# Altium integrated library LEDs.IntLib: 8 symbols
Pins are listed as number, name and electrical type; pins without a type are passive.

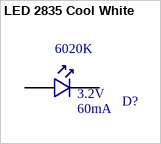
[diagram p0: symbol LED 2835 Cool White]

## LED 2835 Cool White
designator D?  Forward Voltage: 3.2V  Color Temperature: 6020K  Forward Current: 60mA  (hidden comment: LED 2835 Cool White)
LED Lighting - White, Cool 6020K (5300K ~ 7050K) 3.2V 60mA  1113 (2835 Metric); Manufacturer 1: QT Brightek (QTB); Manufacturer 1 PN: QBHP686-IWK-CW; ComponentLink1Description: Datasheet; ComponentLink1URL: http://www.qt-brightek.com/datasheet/QBHP686-IWK-XX.pdf; Digikey PN: 1516-1050-1-ND
footprint LED 2835 Cool White (LED Lighting - White, Cool 6020K (5300K ~ 7050K) 3.2V 60mA  1113 (2835 Metric))
pins: A, K


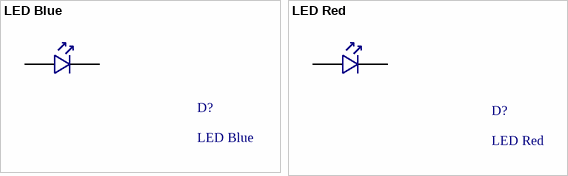
[diagram p1: symbols LED Blue to LED Red]

## LED Blue
designator D?
Blue 470nm LED Indication - Discrete 3.3V 0805 (2012 Metric); Manufacturer 1: Lite-On Inc.; Manufacturer 1 PN: LTST-C171TBKT
footprint LED Blue (Blue 470nm LED Indication - Discrete 3.3V 0805 (2012 Metric))
pins: A, K

## LED Red
designator D?
Red 631nm LED Indication - Discrete 2V 0805 (2012 Metric); Manufacturer 1: Lite-On Inc.; Manufacturer 1 PN: LTST-C171KRKT
footprint LED Red (Red 631nm LED Indication - Discrete 2V 0805 (2012 Metric))
pins: A, K


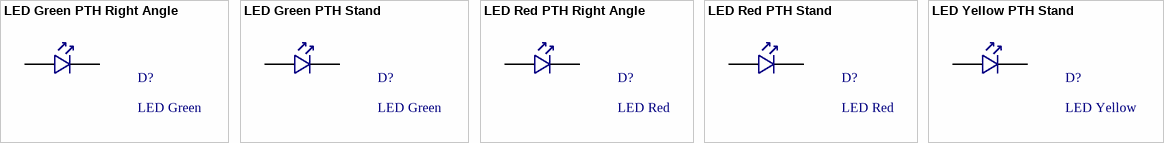
[diagram p2: symbols LED Green PTH Right Angle to LED Yellow PTH Stand]

## LED Green PTH Right Angle
designator D?, comment LED Green
Green 527nm LED Indication - Discrete 3.2V Radial; Manufacturer 1: Wurth Electronics Inc.; Manufacturer 1 PN: 151053GS03000; ComponentLink1Description: Datasheet; ComponentLink1URL: https://www.cree.com/led-components/media/documents/C503B-BAS-BAN-BCS-BCN-GAS-GAN-GCS-GCN-1094.pdf; Digikey PN: 732-5020-ND; Mouser PN: 710-151053GS03000
footprint LED GREEN PTH RIGHT ANGLE (Green 527nm LED Indication - Discrete 3.2V Radial)
pins: A, K

## LED Green PTH Stand
designator D?, comment LED Green
Green 527nm LED Indication - Discrete 3.2V Radial; Manufacturer 1: Wurth Electronics Inc.; Manufacturer 1 PN: 151053GS03000; ComponentLink1Description: Datasheet; ComponentLink1URL: https://www.cree.com/led-components/media/documents/C503B-BAS-BAN-BCS-BCN-GAS-GAN-GCS-GCN-1094.pdf; Digikey PN: 732-5020-ND; Mouser PN: 710-151053GS03000
footprint LED GREEN PTH STAND (Green 527nm LED Indication - Discrete 3.2V Radial)
pins: A, K

## LED Red PTH Right Angle
designator D?, comment LED Red
Red 623nm LED Indication - Discrete 1.9V Radial; Manufacturer 1: Wurth Electronics Inc.; Manufacturer 1 PN: 151053RS03000; ComponentLink1Description: Datasheet; ComponentLink1URL: https://www.cree.com/led-components/media/documents/C503B-BAS-BAN-BCS-BCN-GAS-GAN-GCS-GCN-1094.pdf; Digikey PN: 732-5021-ND; Mouser PN: 710-151053RS03000
footprint LED RED PTH RIGHT ANGLE (Red 623nm LED Indication - Discrete 1.9V Radial)
pins: A, K

## LED Red PTH Stand
designator D?, comment LED Red
Red 623nm LED Indication - Discrete 1.9V Radial; Manufacturer 1: Wurth Electronics Inc.; Manufacturer 1 PN: 151053RS03000; ComponentLink1Description: Datasheet; ComponentLink1URL: https://www.cree.com/led-components/media/documents/C503B-BAS-BAN-BCS-BCN-GAS-GAN-GCS-GCN-1094.pdf; Digikey PN: 732-5021-ND; Mouser PN: 710-151053RS03000
footprint LED RED PTH STAND (Red 623nm LED Indication - Discrete 1.9V Radial)
pins: A, K

## LED Yellow PTH Stand
designator D?, comment LED Yellow
Yellow 590nm LED Indication - Discrete 2.1V Radial; Manufacturer 1: Wurth Electronics Inc.; Manufacturer 1 PN: 151053RS03000; ComponentLink1Description: Datasheet; ComponentLink1URL: https://www.cree.com/led-components/media/documents/C503B-BAS-BAN-BCS-BCN-GAS-GAN-GCS-GCN-1094.pdf; Digikey PN: 732-5021-ND; Mouser PN: 710-151053RS03000
footprint LED YELLOW PTH STAND (Red 623nm LED Indication - Discrete 1.9V Radial)
pins: A, K